# Altium footprint library NODE.PcbLib: 28 footprints (part 1 of 2)
Each footprint in its own frame and in the unit in brackets; x right, y up, seen from the top. Pads: shape width x height; smd on the part's side, far side on the other; paste and mask are expansions set on the pad; w line width, h text height; cw(c..) or ccw(c..) is an arc to the next point about the centre after c.
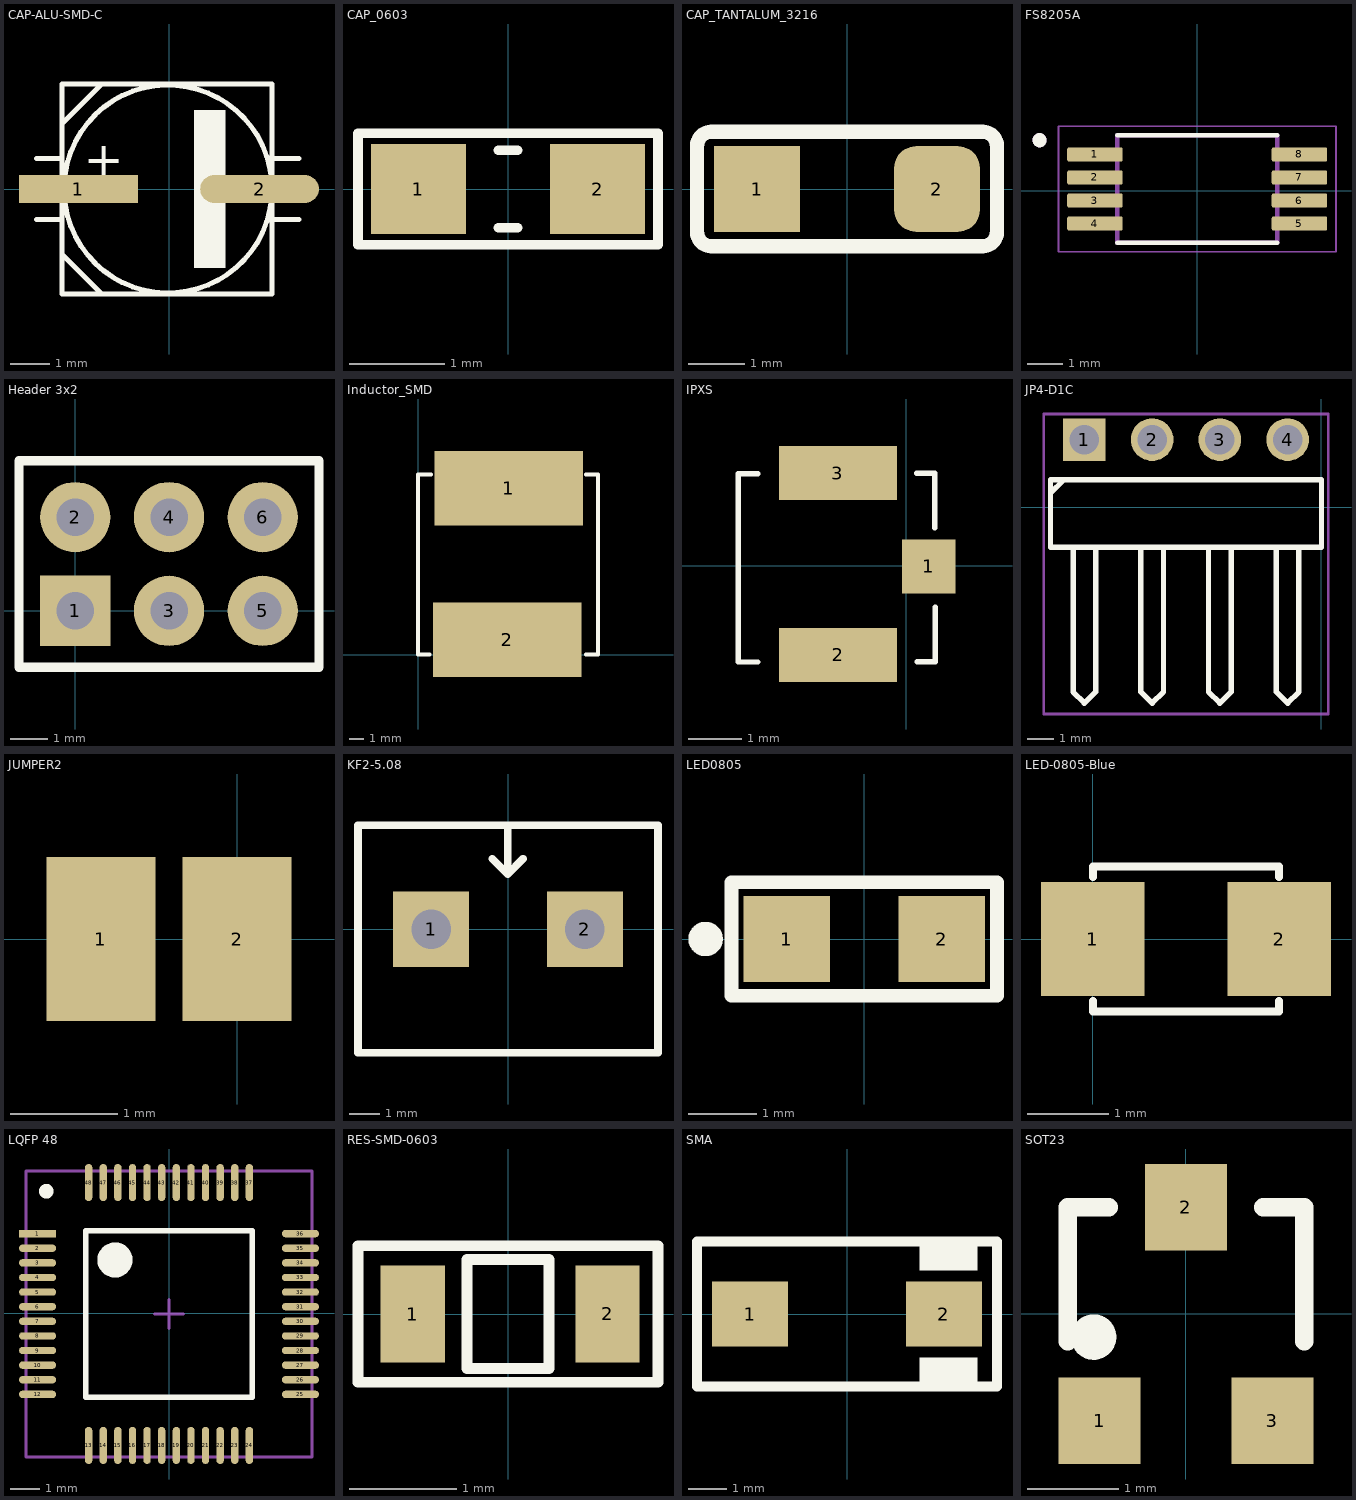
[diagram p0: the footprints below, top view; thin cyan lines are the x and y axes]

## CAP-ALU-SMD-C [mm]
height 5.08
pads (2):
  rect 3x0.7 smd: 1(-2.286,0)
  oval 3x0.7 smd: 2(2.286,0)
Top Overlay:
  circle w0.127: c-0.025,0 r2.625
  rectangle: 0.625,-2 1.425,2
  lines w0.127: -3.35,-0.775 -2.7,-0.775 ; -3.35,0.775 -2.7,0.775 ; -2.7,-1.65 -1.7,-2.65 ; -2.7,1.65 -1.7,2.65 ; 2.6,-0.775 3.275,-0.775 ; 2.6,0.775 3.275,0.775 ; -2.7,-2.65 2.6,-2.65 2.6,2.65 -2.7,2.65 -2.7,0 -2.7,-2.65
  text "+" at -2.15,0.325 h0.89
3D body "User Library-ALU-C.STEP": height 5.41, standoff 0, extent -2.95,-2.65 2.95,2.65

## CAP_0603 [mm]
height 5.08
pads (2):
  rect 1x0.95 smd mask+0.076: 1(-0.94,0) 2(0.94,0)
Top Overlay:
  lines w0.102: -0.102,-0.406 0.102,-0.406 ; -0.102,0.406 0.102,0.406 ; -1.575,-0.584 1.575,-0.584 1.575,0.584 -1.575,0.584 -1.575,-0.584
Mechanical 13:
  lines w0.1: -0.749,-0.4 -0.749,0.4 ; 0.851,-0.4 0.851,0.4
3D body "User Library-CAPC1608X09.step": height 0.9, standoff 0, extent -0.775,-0.394 0.825,0.406

## CAP_TANTALUM_3216 [mil]
height 200
pads (2):
  rect 60x60 smd: 1(-62.99,0)
  rrect50% 60x60 smd: 2(62.99,0)
Top Overlay:
  lines w10: -105,-30 ccw(c-95,-30) -95,-40 95,-40 ccw(c95,-30) 105,-30 105,30 ccw(c95,30) 95,40 -95,40 ccw(c-95,30) -105,30 -105,-30
3D body: height 67.43, standoff 0.5, extent -66.92,-35.43 66.94,35.44

## FS8205A [mm]
height 5.08
pads (8):
  rrect25% 1.56x0.4 smd: 1(-2.88,1.031) 2(-2.88,0.381) 3(-2.88,-0.269) 4(-2.88,-0.919) 5(2.88,-0.919) 6(2.88,-0.269) 7(2.88,0.381) 8(2.88,1.031)
Top Overlay:
  circle w0.2: c-4.44,1.431 r0.1
  lines w0.127: -2.25,-1.459 2.25,-1.459 ; -2.25,1.571 2.25,1.571
Mechanical 13:
  circle w0.2: c-4.44,1.431 r0.1
  lines w0.127: -2.25,-1.459 -2.25,1.571 2.25,1.571 2.25,-1.459 -2.25,-1.459
Mechanical 15:
  lines w0.05: -3.91,-1.709 -3.91,1.821 3.91,1.821 3.91,-1.709 -3.91,-1.709
3D body "FS8205A--3DModel-STEP-56544.STEP": height 1.2, standoff 0, extent -3.2,-1.397 3.2,1.533

## Header 3x2 [mil] "Connector; Header; 6 Position; 2 Row; Solder Pad 35mil"
height 200
pads (6):
  rect 75x75 hole 40: 1(0,0)
  round 75 hole 40: 2(0,100) 3(100,0) 4(100,100) 5(200,0) 6(200,100)
Top Overlay:
  lines w10: -60,-60 -60,160 260,160 260,-60 -60,-60
3D body "Samtec-TSW-103-07-G-D.step": height 83, standoff -347, extent -49.99,-49.99 250.01,150.01

## Inductor_SMD [mm]
height 5.08
pads (2):
  rect 10x5 smd: 1(6.096,11.176) 2(6,1)
Top Overlay:
  lines w0.254: 0.762,0 0,0 0,12.1 0.889,12.1 ; 11.303,0 12.1,0 12.1,12.1 11.303,12.1
3D body "CUON CAM CDRH127 3A SMD.step": height 7.15, standoff -0.3, extent 0.096,-0.202 12.096,12.14

## IPXS [mm] "SOT 23 _ 1-3-2"
height 1.27
pads (3):
  rect 1x1 smd: 1(0.415,-0.01)
  rect 2.2x1 smd: 2(-1.273,-1.658) 3(-1.278,1.73)
Top Overlay:
  lines w0.1: -2.767,-1.79 -3.13,-1.79 -3.13,1.716 -2.767,1.716 ; 0.193,1.726 0.524,1.726 0.524,0.709 ; 0.202,-1.783 0.533,-1.783 0.533,-0.766
3D body: height 1.55, standoff 0.2, extent -1.48,-0.238 -1.082,0.162
3D body: height 0.15, standoff 0, extent -2.056,-1.491 -0.488,-1.033
3D body: height 0.15, standoff 0, extent -2.829,-0.415 -2.38,0.419
3D body: height 1.55, standoff 0.2, extent -2.274,-1.036 -0.282,0.96
3D body: height 0.4, standoff 0.1, extent -2.569,-1.262 0.025,1.332
3D body: height 0.15, standoff 0, extent -2.056,1.103 -0.488,1.561
3D body: height 0.15, standoff 0, extent -0.141,-0.428 0.308,0.406

## JP4-D1C [mm] "4 pins, 1 row, right angled, gold plating"
height 2.54
pads (4):
  rect 1.6x1.6 hole 1.1: 1(-8.89,2.54)
  round 1.6 hole 1.1: 2(-6.35,2.54) 3(-3.81,2.54) 4(-1.27,2.54)
Top Overlay:
  lines w0.2: -10.118,0.574 -9.694,0.998 ; -9.313,-1.525 -9.313,-6.919 -8.89,-7.342 -8.467,-6.919 -8.467,-1.5 ; -6.773,-1.525 -6.773,-6.919 -6.35,-7.342 -5.927,-6.919 -5.927,-1.525 ; -4.233,-1.525 -4.233,-6.919 -3.81,-7.342 -3.387,-6.919 -3.387,-1.5 ; -1.693,-1.525 -1.693,-6.919 -1.27,-7.342 -0.847,-6.919 -0.847,-1.525 ; -10.16,-1.5 0,-1.5 0,1.04 -10.16,1.04 -10.16,-1.5
Mechanical 15:
  lines w0.1: -10.41,-7.75 -10.41,3.5 0.25,3.5 0.25,-7.75 -10.41,-7.75
3D body "61300411021.stp": height 2.54, standoff -3, extent -10.16,-7.566 0,2.794

## JUMPER2 [mil]
height 200
pads (2):
  rect 40x60 smd: 1(-50,0) 2(0,0)

## KF2-5.08 [mm]
height 5.08
pads (2):
  rect 2.5x2.5 hole 1.3: 1(-2.54,0) 2(2.54,0)
Top Overlay:
  lines w0.254: -0.521,2.324 -0.013,1.816 ; -0.013,3.378 -0.013,1.816 ; 0.495,2.324 -0.013,1.816 ; -4.953,-4.077 4.953,-4.077 4.953,3.429 -4.953,3.429 -4.953,-4.077
3D body "SW3DPS-HDR1x2-MED-GREEN.STEP": height 10, standoff -4, extent -5,-4.071 5,3.429

## LED0805 [mil] "Chip Resistor; Body 2.0 x 1.3 mm (LxW typ)"
height 100
pads (2):
  rect 50x50 smd: 1(-45,0) 2(45,0)
Top Overlay:
  circle w10: c-92,0 r5
  lines w7.87: 77,32 77,-33 -77,-33 -77,33 77,33
3D body: height 47.24, standoff 19.68, extent -35,-25 35,25
3D body: height 19.68, standoff 0, extent -60,-25 60,25

## LED-0805-Blue [mil]
height 200
pads (2):
  rect 50x55 smd: 1(0,0) 2(90,0)
Top Overlay:
  lines w4: 0,-30 0,-35 90,-35 90,-30 ; 0,30 0,35 90,35 90,30
3D body "User Library-led_0805-blue.step": height 43.31, standoff 0, extent 5.24,-24.6 84.77,24.61

## LQFP 48 [mm]
height 5.08
pads (48):
  rect 1.27x0.25 smd: 1(-4.498,2.725)
  oval 1.27x0.25 smd: 2(-4.498,2.225) 3(-4.498,1.725) 4(-4.498,1.225) 5(-4.498,0.725) 6(-4.498,0.225) 7(-4.498,-0.275) 8(-4.498,-0.775) 9(-4.498,-1.275) 10(-4.498,-1.775) 11(-4.498,-2.275) 12(-4.498,-2.775) 25(4.498,-2.775) 26(4.498,-2.275) 27(4.498,-1.775) 28(4.498,-1.275) 29(4.498,-0.775) 30(4.498,-0.275) 31(4.498,0.225) 32(4.498,0.725) 33(4.498,1.225) 34(4.498,1.725) 35(4.498,2.225) 36(4.498,2.725)
  oval 0.25x1.27 smd: 13(-2.75,-4.524) 14(-2.25,-4.524) 15(-1.75,-4.524) 16(-1.25,-4.524) 17(-0.75,-4.524) 18(-0.25,-4.524) 19(0.25,-4.524) 20(0.75,-4.524) 21(1.25,-4.524) 22(1.75,-4.524) 23(2.25,-4.524) 24(2.75,-4.524) 37(2.75,4.473) 38(2.25,4.473) 39(1.75,4.473) 40(1.25,4.473) 41(0.75,4.473) 42(0.25,4.473) 43(-0.25,4.473) 44(-0.75,4.473) 45(-1.25,4.473) 46(-1.75,4.473) 47(-2.25,4.473) 48(-2.75,4.473)
Top Overlay:
  circle w0.25: c-4.2,4.175 r0.125
  circle w0.6: c-1.85,1.825 r0.3
  lines w0.2: -2.85,-2.875 -2.85,2.825 2.85,2.825 2.85,-2.875 -2.85,-2.875
Mechanical 15:
  lines w0.1: -0.5,-0.025 0.5,-0.025 ; 0,-0.525 0,0.475 ; -4.9,-4.925 -4.9,4.875 4.9,4.875 4.9,-4.925 -4.9,-4.925
3D body "SW3dPS-LQFP48.STEP": height 1.5, standoff 0, extent -4.5,-4.525 4.5,4.475

## RES-SMD-0603 [mm]
height 5.08
pads (2):
  rect 0.6x0.9 smd: 1(-0.889,0) 2(0.927,0)
Top Overlay:
  lines w0.1: -1.397,-0.635 0.889,-0.635 1.397,-0.635 1.397,0.635 -1.397,0.635 -1.397,-0.635 ; -0.381,-0.508 0.381,-0.508 0.381,0.508 -0.381,0.508 -0.381,-0.508
3D body "User Library-SMD RESISTOR-1 (3).step": height 0.43, standoff -0.03, extent -0.8,-0.4 0.8,0.4

## SMA [mm]
height 5.08
pads (2):
  rect 2x1.7 smd: 1(-2.544,0) 2(2.544,0)
Top Overlay:
  rectangle: 1.905,-1.905 3.429,-1.145
  region: 3.429,1.905 1.905,1.905 1.905,1.145 3.429,1.145
  lines w0.254: -3.937,-1.903 3.937,-1.903 3.937,1.903 -3.937,1.903 -3.937,-1.903
3D body: height 0.2, standoff 0, extent 2.032,-0.864 2.87,0.864
3D body: height 1.14, standoff 0, extent 2.718,-0.864 2.87,0.864
3D body: height 1.14, standoff 0.94, extent 2.489,-0.864 2.87,0.864
3D body: height 2.29, standoff 0.2, extent 2.032,-0.864 2.642,0.864
3D body: height 2.29, standoff 0.2, extent -2.642,-0.864 -2.032,0.864
3D body: height 1.14, standoff 0.94, extent -2.87,-0.864 -2.489,0.864
3D body: height 1.14, standoff 0, extent -2.87,-0.864 -2.718,0.864
3D body: height 0.2, standoff 0, extent -2.87,-0.864 -2.032,0.864
3D body: height 2.29, standoff 0.2, extent -2.64,-1.395 2.642,1.395

## SOT23 [mm] "SOT-23; 3 Leads; Body 3.1 x 2.5 mm, inc. leads (LxW max), Alternate Lead Configuration"
height 1.1
pads (3):
  rect 0.9x0.95 smd: 1(-0.95,-1.175) 2(0,1.175) 3(0.95,-1.175)
Top Overlay:
  circle w0.25: c-1.016,-0.254 r0.125
  lines w0.2: -1.3,-0.3 -1.3,1.175 -0.85,1.175 ; 0.85,1.175 1.3,1.175 1.3,-0.3